# Altium schematic symbol library Relays.SchLib: 1 symbol
Pins are listed as number, name and electrical type; pins without a type are passive.

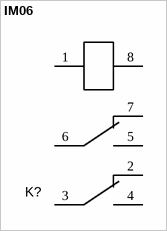
[diagram p0: symbol IM06]

## IM06
designator K?, comment Polarized Monostable DPCO  (value not drawn)
Relay SMD Telecom DPDT latching 2.4VDC; Manufacturer 1: TE Connectivity; Manufacturer Part Number 1: IM48DGR; Circuit: DPDT (2 Form C); Coil Current: 41.7mA; Coil Type: Latching, Single Coil; Ratings: 2A @ 30VDC; Coil Resistance: 58 Ohms; Coil Power: 100 mW; SCDType: undef; Coil Voltage: 2.4VDC; Value: 2.4VDC; Supplier 1: Digi-Key; Supplier Part Number 1: PB1175CT-ND
pins: 1, 2, 3, 4, 5, 6, 7, 8